# Altium schematic symbol library Sensors.SchLib: 1 symbol
Pins are listed as number, name and electrical type; pins without a type are passive.

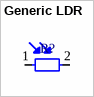
[diagram p0: symbol Generic LDR]

## Generic LDR
designator R?, comment Simbolo de LDR genérico  (value not drawn)
Light Resistance: 10kΩ; Dark Resistance: 1MΩ; Spectral Response Range: 400-700nm; Diameter: 5mm
footprint Generic LDR (Footprint de un LDR genérico THT.)
pins: 1, 2